# Altium schematic symbol library FLOOD_DATN.SchLib: 23 symbols
Pins are listed as number, name and electrical type; pins without a type are passive.

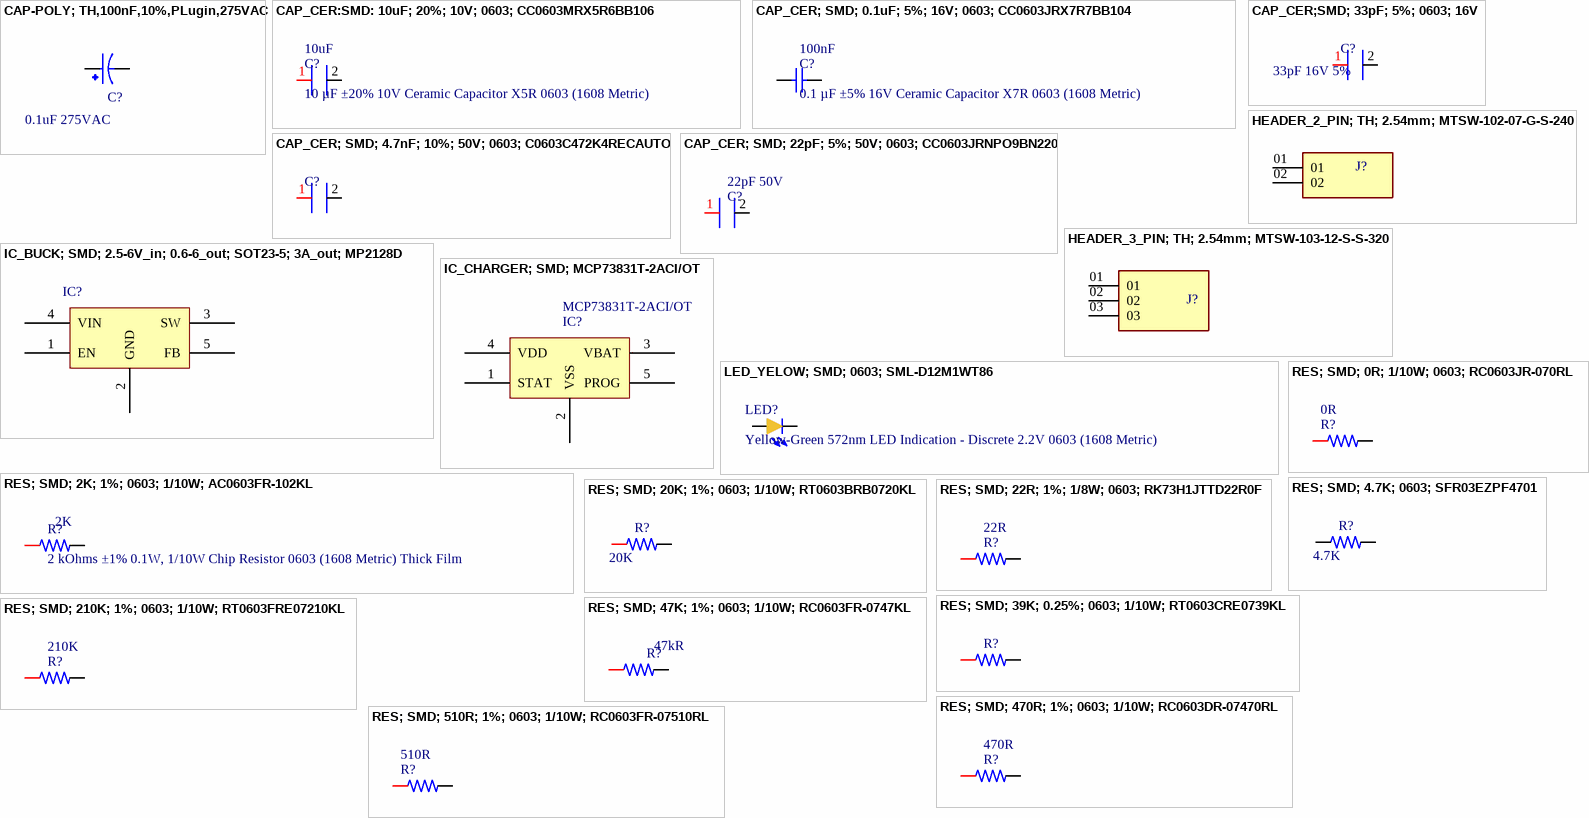
[diagram p0: symbols CAP-POLY; TH,100nF,10%,PLugin,275VAC to RES; SMD; 510R; 1%; 0603; 1/10W; RC0603FR-07510RL]

## CAP-POLY; TH,100nF,10%,PLugin,275VAC
designator C?, comment value 0.1uF 275VAC  (hidden comment: MEX104K275A)
100nF ±10% X2 275V Plugin,P=15mm Suppression Capacitors ROHS; Manufacture: TENTA ELEC INDUSTRIAL; MP: MEX104K275VACA01; Link: https://www.lcsc.com/datasheet/lcsc_datasheet_2304140030_TENTA-ELEC-INDUSTRIAL-MEX104K275VACA01_C8969.pdf; Parameter 1: *; Parameter 2: *; Parameter 3: *; Parameter 4: *; Parameter 5: *
footprint MEX104K275
pins: 1, 2

## CAP_CER:SMD: 10uF; 20%; 10V; 0603; CC0603MRX5R6BB106
designator C?, comment 10 µF ±20% 10V Ceramic Capacitor X5R 0603 (1608 Metric)  value 10uF
Multilayer Ceramic Capacitor, 10 uF, 10 V, ± 20%, X5R, 0603 [1608 Metric]; Manufacturer: Yageo; Manufacturer Part Number: CC0603MRX5R6BB106; Library MADE By: Cong Le; Supplier: Digikey; Supplier Part Number: 311-1817-1-ND; RoHS: Yes; Category: Ceramic Capacitors; Stock: 211765; Pricing: 1=0.18, 10=0.119, 50=0.0752, 100=0.0602, 500=0.04348, 1000=0.03847 (USD); Mounting Technology: Surface Mount; Case/Package: 0603; Case Code (Imperial): 0603; Case Code (Metric): 1608; Weight: 7.1E-05oz; Min Operating Temperature: -55°C; Max Operating Temperature: 85°C; Tolerance: 20%; Packaging: Tape and Reel; Voltage Rating (DC): 10V; Dielectric: X5R; Voltage Rating: 10V; Termination: SMD/SMT; Series: CC; Lead Free: Lead Free; Halogen Free: Halogen Free; RoHS Compliant: Yes; ComponentLink1URL: http://www.mouser.com/ds/2/447/UPY-GPHC_X5R_4V-to-50V_25-1131599.pdf?src-supplier=Mouser; ComponentLink1Description: http://www.mouser.com/ds/2/447/UPY-GPHC_X5R_4V-to-50V_25-1131599.pdf?src-supplier=Mouser; ComponentLink2URL: https://datasheet.octopart.com/CC0603MRX5R6BB106-Yageo-datasheet-158238148.pdf?src-supplier=Newark; ComponentLink2Description: https://datasheet.octopart.com/CC0603MRX5R6BB106-Yageo-datasheet-158238148.pdf?src-supplier=Newark; ComponentLink3URL: http://www.yageo.com/documents/recent/UPY-GPHC_X5R_4V-to-50V_25.pdf?src-supplier=Digikey; ComponentLink3Description: http://www.yageo.com/documents/recent/UPY-GPHC_X5R_4V-to-50V_25.pdf?src-supplier=Digikey; Manufacture Cross: CC0603MRX5R6BB106; Manufacture Part Number Cross: YAGEO; ComponentLink4Description: Link Original; ComponentLink4URL: https://www.digikey.com/en/products/detail/yageo/CC0603MRX5R6BB106/5195224; ComponentLink5Description: Link Cross; ComponentLink5URL: https://www.lcsc.com/product-detail/Multilayer-Ceramic-Capacitors-MLCC-SMD-SMT_YAGEO-CC0603MRX5R6BB106_C109453.html; ComponentLink6Description: Link Viet Nam; ComponentLink6URL: https://icdayroi.com/tu-dien-10uf-25v-0603
footprint CAP_0603_YAGEO
pins: 1  , 2  

## CAP_CER; SMD; 0.1uF; 5%; 16V; 0603; CC0603JRX7R7BB104
designator C?, comment 0.1 µF ±5% 16V Ceramic Capacitor X7R 0603 (1608 Metric)  value 100nF
Multilayer Ceramic Capacitor, 0.1 uF, 16 V, ± 5%, X7R, 0603 [1608 Metric]; Manufacturer: Yageo; Manufacturer Part Number: CC0603JRX7R7BB104; Supplier: Digikey; Supplier Part Number: 311-1776-1-ND; RoHS: Yes; Category: Ceramic Capacitors; Stock: 69960; Pricing: 1=0.1, 10=0.064, 50=0.0368, 100=0.0286, 500=0.0215, 1000=0.01689 (USD); Mounting Technology: Surface Mount; Case/Package: 0603; Pins: 2; Case Code (Metric): 1608; Case Code (Imperial): 0603; Min Operating Temperature: -55°C; Max Operating Temperature: 125°C; Tolerance: 5%; Voltage Rating: 16V; Packaging: Tape and Reel; Dielectric: X7R; Voltage Rating (DC): 16V; Series: CC; Length: 0.063inch; Width: 0.031inch; Thickness: 0.035inch; Depth: 0.8mm; Radiation Hardening: No; Lead Free: Lead Free; Halogen Free: Halogen Free; RoHS Compliant: Yes; ComponentLink1URL: https://datasheet.ciiva.com/26862/getdatasheetpartid-403543-26862779.pdf?src-supplier=Verical; ComponentLink1Description: https://datasheet.ciiva.com/26862/getdatasheetpartid-403543-26862779.pdf?src-supplier=Verical
footprint CAP_0603_YAGEO
pins: 1, 2

## CAP_CER; SMD; 4.7nF; 10%; 50V; 0603; C0603C472K4RECAUTO
designator C?, comment 4700 pF ±10% 16V Ceramic Capacitor X7R 0603 (1608 Metric)  (value not drawn)
Cap Ceramic 0.0047uF 16V X7R 10% Pad SMD 0603 125C Automotive T/R; Manufacturer: KEMET; Manufacturer Part Number: C0603C472K4RECAUTO; Dielectric: 1511DielectricType; Library MADE By: Cong Le; Supplier: Mouser; Supplier Part Number: 80-C0603C472K4RECAUT; RoHS: Yes; Category: Ceramic Capacitors; Stock: 16235; Pricing: 1=0.14, 10=0.08, 50=0.08, 100=0.045, 1000=0.029, 10000=0.02 (USD); Voltage Rating (DC): 16V; RoHS Compliant: 5897YesNo; ComponentLink1URL: http://www.farnell.com/datasheets/2723742.pdf?src-supplier=Farnell; ComponentLink1Description: http://www.farnell.com/datasheets/2723742.pdf?src-supplier=Farnell; ComponentLink2URL: http://www.farnell.com/datasheets/2723742.pdf?src-supplier=Newark; ComponentLink2Description: http://www.farnell.com/datasheets/2723742.pdf?src-supplier=Newark; ComponentLink3URL: https://api.kemet.com/component-edge/download/datasheet/C0603C472K4RECAUTO.pdf?src-supplier=Digikey; ComponentLink3Description: https://api.kemet.com/component-edge/download/datasheet/C0603C472K4RECAUTO.pdf?src-supplier=Digikey; ComponentLink4URL: https://datasheet.octopart.com/C0603C472K4RECAUTO-KEMET-datasheet-153706760.pdf?src-supplier=Element14; ComponentLink4Description: https://datasheet.octopart.com/C0603C472K4RECAUTO-KEMET-datasheet-153706760.pdf?src-supplier=Element14; ComponentLink5URL: https://datasheet.octopart.com/C0603C472K4RECAUTO-KEMET-datasheet-176334383.pdf?src-supplier=Newark; ComponentLink5Description: https://datasheet.octopart.com/C0603C472K4RECAUTO-KEMET-datasheet-176334383.pdf?src-supplier=Newark; Manufacture Part Number Cross: C0603C472K4RECAUTO; Manufacture Cross: KEMET; ComponentLink6Description: Link Original; ComponentLink6URL: https://www.digikey.com/en/products/detail/kemet/C0603C472K4RECAUTO/8640473; ComponentLink7Description: Link Cross; ComponentLink7URL: https://www.lcsc.com/product-detail/Multilayer-Ceramic-Capacitors-MLCC-SMD-SMT_KEMET-C0603C472K4RECAUTO_C2176713.html?s_z=n_C0603C472K4RECAUTO; ComponentLink8Description: Link Viet Nam; ComponentLink8URL: https://linhkienchatluong.vn/tu-dan-0603/tu-dan-0603-472-47nf-50v-10-10c_sp1063_ct14596.aspx
footprint CAP_0603_KEMET
pins: 1  , 2  

## CAP_CER; SMD; 22pF; 5%; 50V; 0603; CC0603JRNPO9BN220
designator C?, comment value 22pF 50V  (hidden comment: 22 pF ±5% 50V Ceramic Capacitor C0G, NP0 0603 (1608 Metric))
Surface Mount Ceramic Multilayer Capacitor 22pF 5% C0G 50V 0603 Paper T/R; Manufacturer: Yageo; Manufacturer Part Number: CC0603JRNPO9BN220; Temperature Coefficient: 30ppm/°C; Library MADE By: Cong Le; Supplier: Future Electronics; Supplier Part Number: 2031987; RoHS: Yes; Category: Ceramic Capacitors; Stock: 2576000; Pricing: 4000=0.0033, 16000=0.0032, 60000=0.0031, 160000=0.003, 400000=0.0028 (USD); Mounting Technology: Surface Mount; Case/Package: 0603; Pins: 2; Case Code (Imperial): 0603; Case Code (Metric): 1608; Min Operating Temperature: -55°C; Max Operating Temperature: 125°C; Tolerance: 5%; Dielectric: C0G; Voltage Rating: 50V; Voltage Rating (DC): 50V; Packaging: Tape and Reel; Package Quantity: 1; Termination: SMD/SMT; Voltage: 50V; Series: CC; Voltage Rating (AC): 50V; Length: 1.6mm; Width: 0.031inch; Height: 0.8mm; Thickness: 0.035inch; Depth: 0.8mm; Radiation Hardening: No; Reach SVHC Compliant: No; Lead Free: Lead Free; RoHS Compliant: Yes; Halogen Free: 5694HalogenFree; ComponentLink1URL: https://datasheet.ciiva.com/11786/0900766b8079c870-11786216.pdf?src-supplier=Rs; ComponentLink1Description: https://datasheet.ciiva.com/11786/0900766b8079c870-11786216.pdf?src-supplier=Rs; ComponentLink2URL: https://datasheet.ciiva.com/28450/1443161-28450487.pdf?src-supplier=Element14; ComponentLink2Description: https://datasheet.ciiva.com/28450/1443161-28450487.pdf?src-supplier=Element14; ComponentLink3URL: https://datasheet.ciiva.com/46430/1835847-46430153.pdf?src-supplier=Element14; ComponentLink3Description: https://datasheet.ciiva.com/46430/1835847-46430153.pdf?src-supplier=Element14; ComponentLink4URL: https://datasheet.ciiva.com/144/mlccorderingcode-144632.pdf?src-supplier=Digikey; ComponentLink4Description: https://datasheet.ciiva.com/144/mlccorderingcode-144632.pdf?src-supplier=Digikey; ComponentLink5URL: https://datasheet.ciiva.com/144/mlccorderingcode-144631.pdf?src-supplier=Digikey; ComponentLink5Description: https://datasheet.ciiva.com/144/mlccorderingcode-144631.pdf?src-supplier=Digikey; ComponentLink6URL: https://datasheet.ciiva.com/144/mlccorderingcode-144633.pdf?src-supplier=Digikey; ComponentLink6Description: https://datasheet.ciiva.com/144/mlccorderingcode-144633.pdf?src-supplier=Digikey; ComponentLink7URL: https://datasheet.ciiva.com/8033/1734582-8033749.pdf?src-supplier=Element14; ComponentLink7Description: https://datasheet.ciiva.com/8033/1734582-8033749.pdf?src-supplier=Element14; ComponentLink8URL: https://datasheet.ciiva.com/11464/upy-gp-np0-16v-to-50v-8-11464728.pdf?src-supplier=Avnet; ComponentLink8Description: https://datasheet.ciiva.com/11464/upy-gp-np0-16v-to-50v-8-11464728.pdf?src-supplier=Avnet; Manufacture Part Number Cross: CC0603JRNPO9BN220; Manufacture Cross: YAGEO; ComponentLink9Description: Link Original; ComponentLink9URL: https://www.digikey.com/en/products/detail/yageo/CC0603JRNPO9BN220/302796; ComponentLink10Description: Link Cross; ComponentLink10URL: https://www.lcsc.com/product-detail/Multilayer-Ceramic-Capacitors-MLCC-SMD-SMT_YAGEO-CC0603JRNPO9BN220_C105620.html?s_z=n_cap%200603%2022pF%2050V; ComponentLink11Description: Link Viet Nam; ComponentLink11URL: https://www.thegioiic.com/tu-gom-0603-22pf-50v
footprint CAP_0603_KEMET
pins: 1  , 2  

## CAP_CER;SMD; 33pF; 5%; 0603; 16V
designator C?, comment value 33pF 16V 5%  (hidden comment: 885012006020)
WCAP-CSGP General Purpose MLCC; SMT 0603; NP0; 33pF 5%; 16V; -55C to +125C; Tech. PN NP00603330J016DFCT10000; Manufacture: WURTH ELECTRONIK; MP: 885012006020; Link: https://www.snapeda.com/parts/885012006020/Wurth%20Electronics%20Inc/view-part/?ref=search&t=cap%200603%2033pF%20WURTH%20ELECTRONIK; PACKAGE: 0603
footprint 0603_WURTH ELECTRONIK
pins: 1  , 2  

## HEADER_2_PIN; TH; 2.54mm; MTSW-102-07-G-S-240
designator J?, comment Connector Header Through Hole 2 position 0.100" (2.54mm)  (value not drawn)
Conn Unshrouded Header HDR 2 POS 2.54mm Solder ST Top Entry Thru-Hole Bulk; Manufacturer: Samtec; Manufacturer Part Number: MTSW-102-07-G-S-240; Manufacture Cross: Samtec Inc.; Library MADE By: Cong Le; Supplier: Digikey; Supplier Part Number: SAM15241-ND; RoHS: Yes; Category: Connectors; Stock: 185; Pricing: 1=0.33, 50=0.25, 100=0.21, 500=0.17, 1000=0.14, 2000=0.12984 (USD); ComponentLink1URL: https://datasheet.octopart.com/MTSW-102-07-G-S-240-Samtec-datasheet-104272029.pdf?src-supplier=Newark; ComponentLink1Description: https://datasheet.octopart.com/MTSW-102-07-G-S-240-Samtec-datasheet-104272029.pdf?src-supplier=Newark; ComponentLink2URL: http://www.samtec.com/documents/webfiles/pdf/HMTSW.PDF?src-supplier=Avnet; ComponentLink2Description: http://www.samtec.com/documents/webfiles/pdf/HMTSW.PDF?src-supplier=Avnet; ComponentLink3URL: http://suddendocs.samtec.com/catalog_english/mtsw.pdf?src-supplier=Digikey; ComponentLink3Description: http://suddendocs.samtec.com/catalog_english/mtsw.pdf?src-supplier=Digikey; ComponentLink4URL: https://datasheet.octopart.com/MTSW-102-07-G-S-240-Samtec-datasheet-97134619.pdf?src-supplier=Samtec; ComponentLink4Description: https://datasheet.octopart.com/MTSW-102-07-G-S-240-Samtec-datasheet-97134619.pdf?src-supplier=Samtec; ComponentLink5URL: https://datasheet.octopart.com/MTSW-102-07-G-S-240-Samtec-datasheet-116533381.pdf?src-supplier=Toby+Electronics; ComponentLink5Description: https://datasheet.octopart.com/MTSW-102-07-G-S-240-Samtec-datasheet-116533381.pdf?src-supplier=Toby+Electronics; ComponentLink6URL: https://datasheet.octopart.com/MTSW-102-07-G-S-240-Samtec-datasheet-118493423.pdf?src-supplier=Electro+Sonic; ComponentLink6Description: https://datasheet.octopart.com/MTSW-102-07-G-S-240-Samtec-datasheet-118493423.pdf?src-supplier=Electro+Sonic; ComponentLink7URL: https://datasheet.octopart.com/MTSW-102-07-G-S-240-Samtec-datasheet-158401026.pdf?src-supplier=Sager+Electronics; ComponentLink7Description: https://datasheet.octopart.com/MTSW-102-07-G-S-240-Samtec-datasheet-158401026.pdf?src-supplier=Sager+Electronics; Manufacture Part Number Cross: MTSW-102-07-G-S-240; ComponentLink8Description: Link Original; ComponentLink8URL: https://www.digikey.com/en/products/detail/samtec-inc/MTSW-102-07-G-S-240/6691608; ComponentLink9Description: Link Cross; ComponentLink9URL: https://www.lcsc.com/product-detail/Pin-Headers_Samtec-MTSW-102-07-G-S-240_C5684211.html; ComponentLink10Description: Link Viet Nam; ComponentLink10URL: https://dientu360.com/jump-duc-chan-1x2p-2-54mm-thang
footprint SAMTEC_MTSW-102-07-G-S-240
pins: 01, 02

## HEADER_3_PIN; TH; 2.54mm; MTSW-103-12-S-S-320
designator J?, comment Connector Header Through Hole 3 position 0.100" (2.54mm)  (value not drawn)
Headers & Wire Housings Variable Height PCB Header Strips, 0.100 pitch; Manufacturer: Samtec; Manufacturer Part Number: MTSW-103-12-S-S-320; Manufacture Cross: Samtec Inc.; Library MADE By: Cong Le; Supplier: Arrow Electronics; Supplier Part Number: MTSW-103-12-S-S-320; RoHS: Yes; Category: Connectors; Stock: 1680; Pricing: 1=0.87, 50=0.68, 100=0.55, 500=0.47, 1000=0.36, 2000=0.32, 5000=0.25, 59679=0.18 (USD); ComponentLink1URL: http://suddendocs.samtec.com/catalog_english/mtsw.pdf?src-supplier=Digikey; ComponentLink1Description: http://suddendocs.samtec.com/catalog_english/mtsw.pdf?src-supplier=Digikey; ComponentLink2URL: http://www.samtec.com/documents/webfiles/pdf/HMTSW.PDF?src-supplier=Avnet; ComponentLink2Description: http://www.samtec.com/documents/webfiles/pdf/HMTSW.PDF?src-supplier=Avnet; Manufacture Part Number Cross: MTSW-103-12-S-S-320; ComponentLink3Description: Link Original; ComponentLink3URL: https://www.digikey.com/en/products/detail/samtec-inc/MTSW-103-12-S-S-320/8144559?s=N4IgTCBcDaILIBUDKB1AtARgAwGZNjSULRzCxAF0BfIA; ComponentLink4Description: Link Cross; ComponentLink4URL: https://www.lcsc.com/product-detail/Pin-Headers_Samtec-MTSW-103-12-S-S-320_C7241465.html; ComponentLink5Description: Link Viet Nam; ComponentLink5URL: https://linhkien.cxt.vn/10707-jump-duc-don-smd-254mm-1x3p-l128mm-10c.html/page-4
footprint SAMTEC_MTSW-103-12-S-S-320
pins: 01, 02, 03

## IC_BUCK; SMD; 2.5-6V_in; 0.6-6_out; SOT23-5; 3A_out; MP2128DT-LF-Z
designator IC?, comment Buck Switching Regulator IC Positive Adjustable 0.6V 1 Output 1A SC-74A, SOT-753  (value not drawn)
MP2128 Series 6 V 1 A 3.2 MHz SMT Synchronous Step-Down Converter - SOT23-5; Manufacturer: Monolithic Power Systems; Manufacturer Part Number: MP2128DT-LF-Z; Library MADE By: Cong Le; Supplier: Digikey; Supplier Part Number: 1589-1873-1-ND; RoHS: Yes; Category: Voltage Regulators - Switching; Stock: 7365; Pricing: 1=1.22, 10=0.883, 25=0.7988, 100=0.7064, 250=0.6624, 500=0.63584, 1000=0.61398 (USD); ComponentLink1URL: http://www.mouser.com/ds/2/277/MP2128_r0.9-478339.pdf?src-supplier=Mouser; ComponentLink1Description: http://www.mouser.com/ds/2/277/MP2128_r0.9-478339.pdf?src-supplier=Mouser; ComponentLink2URL: http://www.monolithicpower.com/Page/DownLoad.aspx?ListID=1a4312a6-2709-4b7d-af52-9f1cedbfd415&&ItemID=24&src-supplier=Avnet; ComponentLink2Description: http://www.monolithicpower.com/Page/DownLoad.aspx?ListID=1a4312a6-2709-4b7d-af52-9f1cedbfd415&&ItemID=24&src-supplier=Avnet; ComponentLink3URL: https://www.monolithicpower.com/pub/media/document/MP2128_r0.9.pdf?src-supplier=Digikey; ComponentLink3Description: https://www.monolithicpower.com/pub/media/document/MP2128_r0.9.pdf?src-supplier=Digikey; ComponentLink4URL: http://www.monolithicpower.com/DesktopModules/DocumentManage/API/Document/getDocument?id=509&src-supplier=Digikey; ComponentLink4Description: http://www.monolithicpower.com/DesktopModules/DocumentManage/API/Document/getDocument?id=509&src-supplier=Digikey; Manufacture Part Number Cross: *; Manufacture Cross: *; ComponentLink5Description: Link Viet Nam; ComponentLink5URL: https://linhkien.cxtvn.com/6999-mp2128dt-lf-z-ic-reg-buck-adj-1a-sot23-5.html; ComponentLink6Description: Link Cross; ComponentLink6URL: *; ComponentLink7Description: Link Original; ComponentLink7URL: https://www.digikey.com/en/products/detail/monolithic-power-systems-inc/MP2128DT-LF-Z/9555303
footprint SOT-23-5
pins: 1 EN, 2 GND, 3 SW, 4 VIN, 5 FB

## IC_CHARGER; SMD; MCP73831T-2ACI/OT
designator IC?, comment Manufacturer Part Number: MCP73831T-2ACI/OT  (hidden comment: Charger IC Lithium Ion/Polymer SOT-23-5)
MCP73831 Series Single-Cell Li-Ion/Li-Polymer Battery Charge Controller SOT-23-5; Manufacturer: Microchip; Number of Cells: 1; Max Supply Voltage: 6V; Output Voltage: 4.2V; Min Supply Voltage: 3.75V; Output Current: 500mA; Max Output Voltage: 4.5V; Max Power Dissipation: 1.54W; Drain to Source Resistance: 350mR; Min Output Voltage: 4.168V; Voltage Rating: 4.534V; Fault Protection: Over Voltage; Library MADE By: Cong Le; Supplier: Newark; Supplier Part Number: 34M7499; RoHS: Yes; Category: Battery Management; Stock: 23961; Pricing: 1=0.75 (USD); Mounting Technology: Surface Mount; Case/Package: SOT-23; Pins: 5; Weight: 0.00709oz; Min Operating Temperature: -40°C; Max Operating Temperature: 85°C; Number of Outputs: 1; Packaging: Tape and Reel; Number of Channels: 1; Termination: SMD/SMT; Max Charge Current: 500mA; Series: -; Battery Pack Voltage: 4.2V; Length: 3.1mm; Width: 1.8mm; Height: 1.3mm; Radiation Hardening: No; RoHS Compliant: Yes; Reach SVHC Compliant: No; ComponentLink1URL: https://datasheet.ciiva.com/22828/0900766b80d2b53a-22828876.pdf?src-supplier=Rs; ComponentLink1Description: https://datasheet.ciiva.com/22828/0900766b80d2b53a-22828876.pdf?src-supplier=Rs; ComponentLink2URL: https://datasheet.ciiva.com/26344/651521-da-01-en-contr-mcp73831t-2aci-ot-sot-23-5-mcp-26344458.pdf?src-supplier=Conrad; ComponentLink2Description: https://datasheet.ciiva.com/26344/651521-da-01-en-contr-mcp73831t-2aci-ot-sot-23-5-mcp-26344458.pdf?src-supplier=Conrad; ComponentLink3URL: https://datasheet.ciiva.com/1137/630369-1137803.pdf?src-supplier=Element14; ComponentLink3Description: https://datasheet.ciiva.com/1137/630369-1137803.pdf?src-supplier=Element14; ComponentLink4URL: https://datasheet.ciiva.com/28626/630369-28626439.pdf?src-supplier=Element14; ComponentLink4Description: https://datasheet.ciiva.com/28626/630369-28626439.pdf?src-supplier=Element14; ComponentLink5URL: https://datasheet.ciiva.com/1144/630369-1144461.pdf?src-supplier=Newark; ComponentLink5Description: https://datasheet.ciiva.com/1144/630369-1144461.pdf?src-supplier=Newark; ComponentLink6URL: https://datasheet.ciiva.com/16286/filehandler-aspxddocname-en025112-16286957.pdf?src-supplier=Future+Electronics; ComponentLink6Description: https://datasheet.ciiva.com/16286/filehandler-aspxddocname-en025112-16286957.pdf?src-supplier=Future+Electronics; ComponentLink7URL: https://datasheet.ciiva.com/1931/21984e-1931954.pdf?src-supplier=Digikey; ComponentLink7Description: https://datasheet.ciiva.com/1931/21984e-1931954.pdf?src-supplier=Digikey; ComponentLink8URL: https://datasheet.ciiva.com/1931/21984e-1931953.pdf?src-supplier=Digikey; ComponentLink8Description: https://datasheet.ciiva.com/1931/21984e-1931953.pdf?src-supplier=Digikey; ComponentLink9URL: https://datasheet.ciiva.com/46385/630369-46385324.pdf?src-supplier=Element14; ComponentLink9Description: https://datasheet.ciiva.com/46385/630369-46385324.pdf?src-supplier=Element14; ComponentLink10URL: https://datasheet.ciiva.com/3213/21984e-3213404.pdf?src-supplier=Avnet; ComponentLink10Description: https://datasheet.ciiva.com/3213/21984e-3213404.pdf?src-supplier=Avnet; ComponentLink11URL: https://datasheet.ciiva.com/1931/21984e-1931955.pdf?src-supplier=Digikey; ComponentLink11Description: https://datasheet.ciiva.com/1931/21984e-1931955.pdf?src-supplier=Digikey; Manufacture Part Number Cross: *; Manufacture Cross: *; ComponentLink12Description: Link Viet Nam; ComponentLink12URL: https://dientuachau.com/mcp73831t-2ati-ot; ComponentLink13Description: Link Cross; ComponentLink13URL: *; ComponentLink14Description: Link Original; ComponentLink14URL: https://www.digikey.com/en/products/detail/microchip-technology/MCP73831T-2ACI-OT/964301?s=N4IgTCBcDaILIGEAKB2AzADjQRgCoFowBBBASQHlcQBdAXyA
footprint SOT-23-5
pins: 1 STAT, 2 VSS, 3 VBAT, 4 VDD, 5 PROG

## LED_YELOW; SMD; 0603; SML-D12M1WT86
designator LED?, comment Yellow-Green 572nm LED Indication - Discrete 2.2V 0603 (1608 Metric)
LED Uni-Color Yellow Green 2-Pin Chip 0603(1608Metric) T/R; Manufacturer: Rohm; Manufacturer Part Number: SML-D12M1WT86; Manufacture Cross: ROHM Semicon; Forward Current: 20mA; Power Dissipation: 54mW; Reverse Voltage: 5V; Library MADE By: Cong Le; Supplier: Digikey; Supplier Part Number: SML-D12M1WT86CT-ND; RoHS: Yes; Category: LEDs; Stock: 114320; Pricing: 1=0.21, 10=0.116, 100=0.0689, 500=0.05074, 1000=0.04519 (USD); Min Operating Temperature: -40°C; Max Operating Temperature: 85°C; Wavelength: 572nm; Lead Free: 5697LeadFree; ComponentLink1URL: https://datasheet.octopart.com/SML-D12M1WT86-Rohm-datasheet-138791993.pdf?src-supplier=Future+Electronics; ComponentLink1Description: https://datasheet.octopart.com/SML-D12M1WT86-Rohm-datasheet-138791993.pdf?src-supplier=Future+Electronics; ComponentLink2URL: https://www.rohm.com/datasheet/SML-D12M1W?src-supplier=Digikey; ComponentLink2Description: https://www.rohm.com/datasheet/SML-D12M1W?src-supplier=Digikey; ComponentLink3URL: https://datasheet.octopart.com/SML-D12M1WT86-Rohm-datasheet-142144710.pdf?src-supplier=TME; ComponentLink3Description: https://datasheet.octopart.com/SML-D12M1WT86-Rohm-datasheet-142144710.pdf?src-supplier=TME; Manufacture Part Number Cross: ROHM Semicon; ComponentLink4Description: Link Original; ComponentLink4URL: https://www.digikey.com/en/products/detail/rohm-semiconductor/sml-d12m1wt86/5843856; ComponentLink5Description: Link Cross; ComponentLink5URL: https://www.lcsc.com/product-detail/LED-Indication-Discrete_ROHM-Semicon-SML-D12M1WT86_C2922668.html; ComponentLink6Description: Link Viet Nam; ComponentLink6URL: https://linhkienviet.vn/led-0603-vang
footprint LED_0603_ROHM
pins: A, C

## RES; SMD; 0R; 1/10W; 0603; RC0603JR-070RL
designator R?, comment value 0R  (hidden comment: 0 Ohms Jumper Chip Resistor 0603 (1608 Metric) Moisture Resistant Thick Film)
GENERAL PURPOSE CHIP RESISTOR Metal Glaze/thick Film, 0.1W, 0ohm, Surface Mount, 0603; Manufacturer: Yageo; Manufacturer Part Number: RC0603JR-070RL; Tolerance: 1%; Power Rating: 100mW; Voltage Rating (DC): 50V; Temperature Coefficient: 200ppm/°C; Resistance Tolerance: 5%; Library MADE By: Cong Le; Supplier: Future Electronics; Supplier Part Number: 3992146; RoHS: Yes; Category: Chip SMD Resistors; Stock: 11810000; Pricing: 5000=0.0015, 50000=0.0014, 75000=0.0014, 150000=0.0013, 250000=0.0014, 375000=0.0013, 750000=0.0013, 1000000=0.0012, 2500000=0.0012 (USD); Case/Package: 0603; Pins: 2; Contact Plating: Tin,Matte; Case Code (Imperial): 0603; Case Code (Metric): 1608; Min Operating Temperature: -55°C; Max Operating Temperature: 155°C; Resistor Type: Thick Film; Packaging: Tape and Reel; Termination: SMD/SMT; Series: RC; Technology: THICK FILM; Package Quantity: 5000; Voltage Rating: 50V; Features: Moisture Resistant; Max Power Dissipation: 100mW; Number of Terminations: 2; Construction: Rectangular; Length: 1.6mm; Width: 0.8mm; Height: 0.45mm; Depth: 0.8mm; Reach SVHC Compliant: Unknown; Lead Free: 5697LeadFree; RoHS Compliant: Yes; Military Standard: Not; Manufacture Cross: YAGEO; Manufacture Part Number Cross: RC0603JR-070RL; ComponentLink1Description: Link Original; ComponentLink1URL: https://www.digikey.com/en/products/detail/yageo/RC0603JR-070RL/726675; ComponentLink2Description: Link Cross; ComponentLink2URL: https://www.lcsc.com/product-detail/Chip-Resistor-Surface-Mount_YAGEO-RC0603JR-070RL_C95177.html; ComponentLink3Description: Link Viet Nam; ComponentLink3URL: https://cungcaplinhkien.vn/dien-tro-dan-0k-0603-5-cuon-5000pcs
footprint 0603_YAGEO
pins: 1, 2

## RES; SMD; 2K; 1%; 0603; 1/10W; AC0603FR-102KL
designator R?, comment 2 kOhms ±1% 0.1W, 1/10W Chip Resistor 0603 (1608 Metric) Thick Film  value 2K
Res Thick Film 0603 2K Ohm 1% 0.1W(1/10W) ±100ppm/C Epoxy Pad SMD Automotive T/R; Manufacturer: Yageo; Manufacturer Part Number: AC0603FR-102KL; Power Rating: 100mW; Temperature Coefficient: 100ppm/°C; Voltage Rating: 75V; Library MADE By: Cong Le; Supplier: Future Electronics; Supplier Part Number: 5129927; RoHS: Yes; Category: Chip SMD Resistors; Stock: 10000; Pricing: 10000=0.0016, 30000=0.0015, 50000=0.0015, 200000=0.0015, 300000=0.0014 (USD); Case/Package: 0603; Min Operating Temperature: -55°C; Max Operating Temperature: 155°C; Tolerance: 1%; Packaging: 10Packaging; Height: 550um; RoHS Compliant: Yes; ComponentLink1URL: https://datasheet.octopart.com/AC0603FR-102KL-Yageo-datasheet-137699919.pdf?src-supplier=Future+Electronics; ComponentLink1Description: https://datasheet.octopart.com/AC0603FR-102KL-Yageo-datasheet-137699919.pdf?src-supplier=Future+Electronics; Manufacture Part Number Cross: *; Manufacture Cross: *; ComponentLink2Description: Link Viet Nam; ComponentLink2URL: https://linhkienchatluong.vn/dien-tro-dan-0603-116w-1/dien-tro-dan-0603-2k-1-30b-50c_sp836_ct8910.aspx; ComponentLink3Description: Link Cross; ComponentLink3URL: *; ComponentLink4Description: Link Original; ComponentLink4URL: https://www.digikey.com/en/products/detail/yageo/AC0603FR-102KL/14008310?s=N4IgTCBcDaIIIGEAMA2JBmAYgJQLQEYkwBpAGRAF0BfIA
footprint 0603_YAGEO
pins: 1, 2

## RES; SMD; 4.7K; 0603; SFR03EZPF4701
designator R?, comment value 4.7K  (hidden comment: 4.7 kOhms ±1% 0.1W, 1/10W Chip Resistor 0603 (1608 Metric) Anti-Sulfur Thick Film)
Res Anti-Sulfured Thick Film 0603 4.7k Ohm 1% 1/10W ±100ppm/°C Molded Paper T/R; Manufacturer: Rohm; Manufacturer Part Number: SFR03EZPF4701; Power Rating: 100mW; Voltage Rating (DC): 50V; Designer: TVBac; Supplier: Mouser; Supplier Part Number: 755-SFR03EZPF4701; RoHS: Yes; Category: Chip SMD Resistors; Stock: 30180; Pricing: 1=0.14, 10=0.045, 50=0.045, 100=0.027, 1000=0.02, 10000=0.014 (USD); ComponentLink1URL: http://www.farnell.com/datasheets/2611943.pdf?src-supplier=Farnell; ComponentLink1Description: http://www.farnell.com/datasheets/2611943.pdf?src-supplier=Farnell; ComponentLink2URL: http://www.farnell.com/datasheets/2611943.pdf?src-supplier=Newark; ComponentLink2Description: http://www.farnell.com/datasheets/2611943.pdf?src-supplier=Newark; ComponentLink3URL: http://www.farnell.com/datasheets/2611943.pdf?src-supplier=Element14; ComponentLink3Description: http://www.farnell.com/datasheets/2611943.pdf?src-supplier=Element14; ComponentLink4URL: https://www.rohm.com/datasheet/SFR03EZPF/sfr-e?src-supplier=Digikey; ComponentLink4Description: https://www.rohm.com/datasheet/SFR03EZPF/sfr-e?src-supplier=Digikey; ComponentLink5Description: Link Digikey; ComponentLink5URL: https://www.digikey.com/en/products/detail/rohm-semiconductor/SFR03EZPF4701/9771855
footprint 0603-RS
pins: 1, 2

## RES; SMD; 20K; 1%; 0603; 1/10W; RT0603BRB0720KL
designator R?, comment value 20K  (hidden comment: Res Thin Film 0603 20K Ohm 0.1% 0.1W(1/10W) ±10ppm/C Molded SMD Paper T/R)
Res Thin Film 0603 20K Ohm 0.1% 0.1W(1/10W) ±10ppm/C Pad SMD T/R; Manufacturer: Yageo; Manufacturer Part Number: RT0603BRB0720KL; Library MADE By: Cong Le; Supplier: Digikey; Supplier Part Number: YAG2180CT-ND; RoHS: Yes; Category: Chip SMD Resistors; Stock: 1564; Pricing: 1=0.56, 10=0.404, 50=0.2928, 100=0.2754, 500=0.21318, 1000=0.17052 (USD); ComponentLink1URL: https://datasheet.ciiva.com/12726/pyu-rt-1-to-0-05-rohs-l-4-12726757.pdf?src-supplier=Mouser; ComponentLink1Description: https://datasheet.ciiva.com/12726/pyu-rt-1-to-0-05-rohs-l-4-12726757.pdf?src-supplier=Mouser; Manufacture Part Number Cross: *; Manufacture Cross: *; ComponentLink2Description: Link Viet Nam; ComponentLink2URL: https://linhkienchatluong.vn/dien-tro-dan-0603-116w-1/dien-tro-dan-0603-20k-1-30c-50c_sp836_ct8433.aspx; ComponentLink3Description: Link Cross; ComponentLink3URL: *; ComponentLink4Description: Link Original; ComponentLink4URL: https://www.digikey.com/en/products/detail/yageo/RT0603BRB0720KL/5138699?s=N4IgTCBcDaIEoBUAMA2JBmAQnTSDsYSA0gDIgC6AvkA
footprint 0603_YAGEO
pins: 1, 2

## RES; SMD; 22R; 1%; 1/8W; 0603; RK73H1JTTD22R0F
designator R?, comment value 22R  (hidden comment: 22 Ohms ±1% 0.1W, 1/10W Chip Resistor 0603 (1608 Metric) Automotive AEC-Q200 Thick Film)
Res Thick Film 0603 22 Ohm 1% 0.125W(1/8W) +/-100ppm/ßC Pad SMD Automotive T/R; Manufacturer: KOA Speer; Manufacturer Part Number: RK73H1JTTD22R0F; Manufacture Cross: KOA Speer Electronics, Inc.; Power Rating: 100mW; Voltage Rating: 50V; Temperature Coefficient: 100ppm/°C; Max Power Dissipation: 125mW; Library MADE By: Cong Le; Supplier: Digikey; Supplier Part Number: 2019-RK73H1JTTD22R0FCT-ND; RoHS: Yes; Category: Chip SMD Resistors; Stock: 224262; Pricing: 1=0.1, 10=0.021, 50=0.013, 100=0.0108, 500=0.00734, 1000=0.00631, 5000=0.00458, 10000=0.00406, 25000=0.00348, 35000=0.00338, 50000=0.00314, 125000=0.00285 (USD); Case/Package: 0603; Pins: 2; Case Code (Imperial): 0603; Case Code (Metric): 1608; Min Operating Temperature: -55°C; Max Operating Temperature: 155°C; Tolerance: 1%; Packaging: Tape and Reel; Package Quantity: 5000; Resistor Type: Thick Film; Termination: SMD/SMT; Voltage Rating (DC): 50V; Series: RK73H; Resistance Tolerance: 1%; Features: Moisture Resistant,Automotive AEC-Q200; Number of Terminations: 2; Length: 1.6mm; Width: 0.8mm; Height: 0.45mm; Ratings: AEC-Q200; Lead Free: Lead Free; RoHS Compliant: Yes; ComponentLink1URL: https://datasheet.ciiva.com/48426/rk73h-series-eng-jap-tds-48426569.pdf?src-supplier=Distrelec; ComponentLink1Description: https://datasheet.ciiva.com/48426/rk73h-series-eng-jap-tds-48426569.pdf?src-supplier=Distrelec; ComponentLink2URL: https://datasheet.ciiva.com/5553/rk73h-5715-5553511.pdf?src-supplier=Mouser; ComponentLink2Description: https://datasheet.ciiva.com/5553/rk73h-5715-5553511.pdf?src-supplier=Mouser; Manufacture Part Number Cross: RK73H1JTTD22R0F; ComponentLink3Description: Link Original; ComponentLink3URL: https://www.digikey.com/en/products/detail/koa-speer-electronics-inc/RK73H1JTTD22R0F/9844876; ComponentLink4Description: Link Cross; ComponentLink4URL: https://www.lcsc.com/product-detail/Chip-Resistor-Surface-Mount_KOA-Speer-Elec-RK73H1JTTD22R0F_C160030.html; ComponentLink5Description: Link Viet Nam; ComponentLink5URL: https://shopee.vn/%C4%90i%E1%BB%87n-Tr%E1%BB%9F-D%C3%A1n-220-22R-0603-1-8W-(100-con-T%C3%BAi)-i.503475102.12184492244
footprint 0603_KOA
pins: 1, 2

## RES; SMD; 39K; 0.25%; 0603; 1/10W; RT0603CRE0739KL
designator R?, comment 39 kOhms ±0.25% 0.1W, 1/10W Chip Resistor 0603 (1608 Metric) Thin Film  (value not drawn)
High Precision-High Stability Chip Resistor Thin Film 0603 39kOhm 0.25% Paper T/R; Manufacturer: Yageo; Manufacturer Part Number: RT0603CRE0739KL; Value: 39K; Max Power Dissipation: 100mW; Temperature Coefficient: 50ppm/°C; Library MADE By: Cong Le; Supplier: Digikey; Supplier Part Number: RT0603CRE0739KL-ND; RoHS: Yes; Category: Chip SMD Resistors; Pricing: 5000=0.04827 (USD); Case/Package: 0603; Min Operating Temperature: -55°C; Max Operating Temperature: 155°C; Tolerance: 0.25%; Packaging: Tape and Reel; Number of Terminations: 2; Features: Moisture Resistant; Series: RT; Length: 0.063inch; Width: 0.031inch; Height: 0.022inch; RoHS Compliant: Yes; ComponentLink1URL: http://www.yageo.com/documents/recent/PYu-RT_1-to-0.01_RoHS_L_8.pdf?src-supplier=Digikey; ComponentLink1Description: http://www.yageo.com/documents/recent/PYu-RT_1-to-0.01_RoHS_L_8.pdf?src-supplier=Digikey; Manufacture Part Number Cross: *; Manufacture Cross: *; ComponentLink2Description: Link Viet Nam; ComponentLink2URL: https://linhkienchatluong.vn/dien-tro-dan-0603-116w-1/dien-tro-dan-0603-39k-1-50c_sp836_ct5803.aspx; ComponentLink3Description: Link Cross; ComponentLink3URL: *; ComponentLink4Description: Link Original; ComponentLink4URL: https://www.digikey.com/en/products/detail/yageo/RT0603CRE0739KL/5928786?s=N4IgTCBcDaIEoBUAMA2JBmAwnAokg7OgJwDSAMiALoC%2BQA
footprint 0603_YAGEO
pins: 1, 2

## RES; SMD; 47K; 1%; 0603; 1/10W; RC0603FR-0747KL
designator R?, comment value 47kR  (hidden comment: 47 kOhms ±1% 0.1W, 1/10W Chip Resistor 0603 (1608 Metric) Moisture Resistant Thick Film)
SMD Chip Resistor, 47 kOhm, ï¿½ 1%, 100 mW, 0603 [1608 Metric], Thick Film, General Purpose; Manufacturer: Yageo; Manufacturer Part Number: RC0603FR-0747KL; Power Rating: 100mW; Voltage Rating: 50V; Temperature Coefficient: 100ppm/°C; Library MADE By: Cong Le; Supplier: Future Electronics; Supplier Part Number: 6616189; RoHS: Yes; Category: Chip SMD Resistors; Stock: 6495000; Pricing: 5000=0.0015, 50000=0.0014, 75000=0.0014, 150000=0.0013, 250000=0.0014, 375000=0.0013, 750000=0.0013, 1000000=0.0012, 2500000=0.0012 (USD); Case/Package: 0603; Pins: 2; Case Code (Metric): 1608; Case Code (Imperial): 0603; Min Operating Temperature: -55°C; Max Operating Temperature: 155°C; Tolerance: 1%; Packaging: Tape and Reel; Voltage Rating (DC): 50V; Package Quantity: 1; Resistor Type: Thick Film; Number of Terminations: 2; Termination: SMD/SMT; Max Power Dissipation: 100mW; Features: Moisture Resistant; Series: RC; Resistance Tolerance: 1%; Technology: THICK FILM; Voltage Rating (AC): 50V; Length: 0.063inch; Width: 0.031inch; Height: 0.022inch; Depth: 0.8mm; Radiation Hardening: No; Lead Free: Lead Free; RoHS Compliant: Yes; Reach SVHC Compliant: Unknown; ComponentLink1URL: https://datasheet.ciiva.com/11808/0900766b80f96399-11808118.pdf?src-supplier=Rs; ComponentLink1Description: https://datasheet.ciiva.com/11808/0900766b80f96399-11808118.pdf?src-supplier=Rs; ComponentLink2URL: https://datasheet.ciiva.com/2453/pyu-r-int-thick-7-2453931.pdf?src-supplier=Digikey; ComponentLink2Description: https://datasheet.ciiva.com/2453/pyu-r-int-thick-7-2453931.pdf?src-supplier=Digikey; ComponentLink3URL: https://datasheet.ciiva.com/2453/pyu-r-int-thick-7-2453932.pdf?src-supplier=Digikey; ComponentLink3Description: https://datasheet.ciiva.com/2453/pyu-r-int-thick-7-2453932.pdf?src-supplier=Digikey; ComponentLink4URL: https://datasheet.ciiva.com/2453/pyu-r-int-thick-7-2453933.pdf?src-supplier=Digikey; ComponentLink4Description: https://datasheet.ciiva.com/2453/pyu-r-int-thick-7-2453933.pdf?src-supplier=Digikey; ComponentLink5URL: https://datasheet.ciiva.com/7746/443971-7746361.pdf?src-supplier=Element14; ComponentLink5Description: https://datasheet.ciiva.com/7746/443971-7746361.pdf?src-supplier=Element14; ComponentLink6URL: https://datasheet.ciiva.com/7746/443971-7746362.pdf?src-supplier=Element14; ComponentLink6Description: https://datasheet.ciiva.com/7746/443971-7746362.pdf?src-supplier=Element14; Manufacture Cross: YAGEO; Manufacture Part Number Cross: RC0603FR-0747KL; ComponentLink7Description: Link Original; ComponentLink7URL: https://www.digikey.com/en/products/detail/yageo/RC0603FR-0747KL/727253; ComponentLink8Description: Link Cross; ComponentLink8URL: https://www.lcsc.com/product-detail/Chip-Resistor-Surface-Mount_YAGEO-RC0603FR-0747KL_C105579.html; ComponentLink9Description: Link Viet Nam; ComponentLink9URL: https://linhkienchatluong.vn/dien-tro-dan-0603-116w-1/dien-tro-dan-0603-47k-1-50c_sp836_ct8437.aspx
footprint 0603_YAGEO
pins: 1, 2

## RES; SMD; 210K; 1%; 0603; 1/10W; RT0603FRE07210KL
designator R?, comment value 210K  (hidden comment: 210 kOhms ±1% 0.1W, 1/10W Chip Resistor 0603 (1608 Metric) Thin Film)
igh Precision-High Stability Chip Resistor Thin Film 0603 210kOhm 1% Paper T/R; Manufacturer: Yageo; Manufacturer Part Number: RT0603FRE07210KL; Power Rating: 100mW; Voltage Rating: 75V; Temperature Coefficient: 50ppm/°C; Voltage Rating (DC): 50V; Library MADE By: Cong Le; Supplier: Future Electronics; Supplier Part Number: 6163244; RoHS: Yes; Category: Chip SMD Resistors; Stock: 5000; Pricing: 5000=0.0028, 15000=0.0027, 50000=0.0026, 100000=0.0025, 200000=0.0024 (USD); Case/Package: 0603; Case Code (Metric): 1608; Case Code (Imperial): 0603; Min Operating Temperature: -55°C; Max Operating Temperature: 155°C; Packaging: Tape and Reel; Tolerance: 1%; Number of Terminations: 2; Termination: SMD/SMT; Max Power Dissipation: 100mW; Series: RT; Lead Free: Lead Free; RoHS Compliant: Yes; ComponentLink1URL: https://datasheet.ciiva.com/2559/pyu-rt-1-to-0-05-rohs-l-5-2559639.pdf?src-supplier=Digikey; ComponentLink1Description: https://datasheet.ciiva.com/2559/pyu-rt-1-to-0-05-rohs-l-5-2559639.pdf?src-supplier=Digikey; ComponentLink2URL: https://datasheet.ciiva.com/12704/pyu-rt-1-to-0-05-rohs-l-4-12704296.pdf?src-supplier=Mouser; ComponentLink2Description: https://datasheet.ciiva.com/12704/pyu-rt-1-to-0-05-rohs-l-4-12704296.pdf?src-supplier=Mouser; ComponentLink3Description: Link Viet Nam; ComponentLink3URL: https://dientutuonglai.com/dien-tro-dan-210k-ohm-0603-1.html; ComponentLink4Description: Link Cross; ComponentLink4URL: *; ComponentLink5Description: Link Original; ComponentLink5URL: https://www.digikey.com/en/products/detail/yageo/RT0603FRE07210KL/1075197?s=N4IgTCBcDaIEoBUAMA2JBmAYnAokg7GAIxIDSAMiALoC%2BQA; Manufacture Part Number Cross: *; Manufacture Cross: *
footprint 0603_YAGEO
pins: 1, 2

## RES; SMD; 470R; 1%; 0603; 1/10W; RC0603DR-07470RL
designator R?, comment value 470R  (hidden comment: 470 Ohms ±0.5% 0.1W, 1/10W Chip Resistor 0603 (1608 Metric) Moisture Resistant Thick Film)
General Purpose Chip Resistor Thick Film 0603 470Ohm 0.5% Paper T/R; Manufacturer: Yageo; Manufacturer Part Number: RC0603DR-07470RL; Max Power Dissipation: 100mW; Temperature Coefficient: 100ppm/°C; Library MADE By: Cong Le; Supplier: Digikey; Supplier Part Number: RC0603DR-07470RL-ND; RoHS: Yes; Category: Chip SMD Resistors; Pricing: 5000=0.00884 (USD); Case/Package: 0603; Min Operating Temperature: -55°C; Max Operating Temperature: 155°C; Packaging: Tape and Reel; Number of Terminations: 2; Tolerance: 0.5%; Features: Moisture Resistant; Series: RC; Length: 0.063inch; Width: 0.031inch; Height: 0.022inch; RoHS Compliant: Yes; ComponentLink1URL: http://www.yageo.com.tw/exep/pages/download/literatures/PYu-R_INT-thick_7.pdf?src-supplier=Digikey; ComponentLink1Description: http://www.yageo.com.tw/exep/pages/download/literatures/PYu-R_INT-thick_7.pdf?src-supplier=Digikey; Manufacture Cross: *; Manufacture Part Number Cross: *; ComponentLink2Description: Link Viet Nam; ComponentLink2URL: https://www.linhkienchatluong.vn/dien-tro-dan-0603-116w/dien-tro-dan-0603-470r-1-50c_sp836_ct8421.aspx; ComponentLink3Description: Link Cross; ComponentLink3URL: *; ComponentLink4Description: Link Original; ComponentLink4URL: https://www.digikey.com/en/products/detail/yageo/RC0603DR-07470RL/5918080?s=N4IgTCBcDaIE4GMAMA2JBmAJnAtEg7ACz5JwA2IAugL5A
footprint 0603_YAGEO
pins: 1, 2

## RES; SMD; 510R; 1%; 0603; 1/10W; RC0603FR-07510RL
designator R?, comment value 510R  (hidden comment: 510 Ohms ±1% 0.1W, 1/10W Chip Resistor 0603 (1608 Metric) Moisture Resistant Thick Film)
100Mw Thick Film Resistors 100Ppm/ 1% 510 0603 Chip Resistor Surface Mount Rohs; Manufacturer: Yageo; Manufacturer Part Number: RC0603FR-07510RL; Temperature Coefficient: 100ppm/°C; Voltage Rating: 75V; Voltage Rating (DC): 50V; Library MADE By: Cong Le; Supplier: Newark; Supplier Part Number: 21AM7137; RoHS: Yes; Category: Chip SMD Resistors; Case/Package: 0603; Pins: 2; Contact Plating: Tin,Matte; Case Code (Imperial): 0603; Weight: 7.1E-05oz; Case Code (Metric): 1608; Min Operating Temperature: -55°C; Max Operating Temperature: 155°C; Tolerance: 1%; Power Rating: 100mW; Packaging: Tape and Reel; Termination: SMD/SMT; Resistor Type: Thick Film; Features: Moisture Resistant; Series: RC; Max Power Dissipation: 100mW; Number of Terminations: 2; Resistance Tolerance: 1%; Technology: THICK FILM; Length: 1.6mm; Width: 0.8mm; Height: 0.45mm; Depth: 0.8mm; Reach SVHC Compliant: No; Lead Free: 5697LeadFree; RoHS Compliant: Yes; ComponentLink1URL: https://datasheet.ciiva.com/11808/0900766b80f96399-11808268.pdf?src-supplier=Rs; ComponentLink1Description: https://datasheet.ciiva.com/11808/0900766b80f96399-11808268.pdf?src-supplier=Rs; ComponentLink2URL: https://datasheet.ciiva.com/46395/443971-46395013.pdf?src-supplier=Element14; ComponentLink2Description: https://datasheet.ciiva.com/46395/443971-46395013.pdf?src-supplier=Element14; ComponentLink3URL: https://datasheet.ciiva.com/8883/pyu-rc0603-51-rohs-l-4-8883078.pdf?src-supplier=Avnet; ComponentLink3Description: https://datasheet.ciiva.com/8883/pyu-rc0603-51-rohs-l-4-8883078.pdf?src-supplier=Avnet; Manufacture Part Number Cross: *; Manufacture Cross: *; ComponentLink4Description: Link Viet Nam; ComponentLink4URL: https://linhkienchatluong.vn/dien-tro-dan-0603-116w-1/dien-tro-dan-0603-510r-1-50c_sp836_ct8908.aspx; ComponentLink5Description: Link Cross; ComponentLink5URL: *; ComponentLink6Description: Link Original; ComponentLink6URL: https://www.digikey.com/en/products/detail/yageo/RC0603FR-07510RL/727285?s=N4IgTCBcDaIEoGEAMA2JBmAYnAtEg7AKwCMScAMiALoC%2BQA
footprint 0603_YAGEO
pins: 1, 2

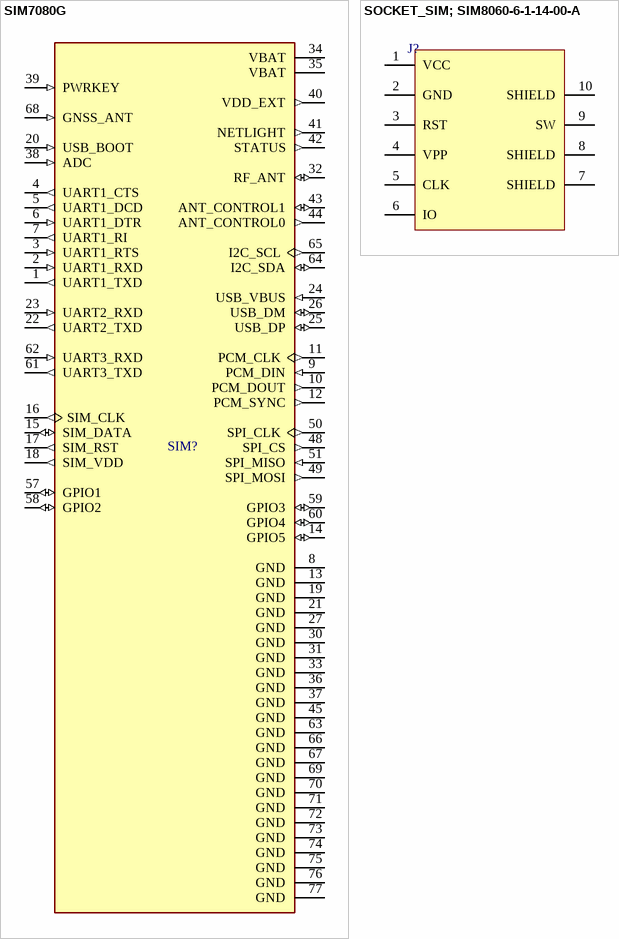
[diagram p1: symbols SIM7080G to SOCKET_SIM; SIM8060-6-1-14-00-A]

## SIM7080G
designator SIM?, comment RF TXRX MOD CELL NAV SMD  (value not drawn)
CAT-M and NB-IoT Module 600MHz/700MHz/800MHz/850MHz/900MHz/1700MHz/1800MHz/1900MHz/2100MHz 2.7V to 4.8V LCC+LGA; Manufacturer: Simcom; Manufacturer Part Number: SIM7080G; Library MADE By: Cong Le; Supplier: Digikey; Supplier Part Number: 3781-SIM7080G-ND; RoHS: No; Category: LDO; Stock: 865; Pricing: 1=22.62, 10=19.724, 25=18.7208, 100=17.3446, 250=16.52136, 500=15.94076 (USD); Manufacture Cross: *; Manufacture Part Number Cross: *; ComponentLink1Description: Link Original; ComponentLink1URL: https://www.digikey.com/en/products/detail/simcom-wireless-solutions-limited/SIM7080G/15841448; ComponentLink2Description: Link Cross; ComponentLink2URL: *; ComponentLink3Description: Link Viet Nam; ComponentLink3URL: https://linhkien.cxtvn.com/6535-sim7080g-cat-mnb-iot.html
footprint SIM7080G
pins: 1 UART1_TXD (out), 2 UART1_RXD (in), 3 UART1_RTS (in), 4 UART1_CTS (out), 5 UART1_DCD (out), 6 UART1_DTR (in), 7 UART1_RI (out), 8 GND (power), 9 PCM_DIN (in), 10 PCM_DOUT (out), 11 PCM_CLK (out), 12 PCM_SYNC (out), 13 GND (power), 14 GPIO5 (io), 15 SIM_DATA (io), 16 SIM_CLK (out), 17 SIM_RST (out), 18 SIM_VDD (out), 19 GND (power), 20 USB_BOOT (in), 21 GND (power), 22 UART2_TXD (out), 23 UART2_RXD (in), 24 USB_VBUS (in), 25 USB_DP (io), 26 USB_DM (io), 27 GND (power), 30 GND (power), 31 GND (power), 32 RF_ANT (io), 33 GND (power), 34 VBAT (power), 35 VBAT (power), 36 GND (power), 37 GND (power), 38 ADC (in), 39 PWRKEY (in), 40 VDD_EXT (out), 41 NETLIGHT (out), 42 STATUS (out), 43 ANT_CONTROL1 (io), 44 ANT_CONTROL0 (out), 45 GND (power), 48 SPI_CS (out), 49 SPI_MOSI (out), 50 SPI_CLK (out), 51 SPI_MISO (in), 57 GPIO1 (io), 58 GPIO2 (io), 59 GPIO3 (io), 60 GPIO4 (io), 61 UART3_TXD (out), 62 UART3_RXD (in), 63 GND (power), 64 I2C_SDA (io), 65 I2C_SCL (out), 66 GND (power), 67 GND (power), 68 GNSS_ANT (in), 69 GND (power), 70 GND (power), 71 GND (power), 72 GND (power), 73 GND (power), 74 GND (power), 75 GND (power), 76 GND (power), 77 GND (power)

## SOCKET_SIM; SIM8060-6-1-14-00-A
designator J?, comment 6 Position Card Connector NANO SIM Surface Mount, Right Angle Gold  (value not drawn)
6 Position Right Angle Surface Mount NANO SIM Card Connector; Manufacturer: Global Connector Technology; Manufacturer Part Number: SIM8060-6-1-14-00-A; Manufacture Cross: GCT; Designer: TVBac; Library MADE By: Cong Le; Supplier: Digikey; Supplier Part Number: 2073-SIM8060-6-1-14-00-ACT-ND; RoHS: No; Category: Connectors; Stock: 11694; Pricing: 1=1.44, 10=1.217, 25=1.1676, 50=1.143, 100=1.0932, 250=0.99384, 500=0.89446 (USD); ComponentLink1URL: https://datasheet.octopart.com/SIM8060-6-1-14-00-A-Global-Connector-Technology-datasheet-128083790.pdf?src-supplier=Future+Electronics; ComponentLink1Description: https://datasheet.octopart.com/SIM8060-6-1-14-00-A-Global-Connector-Technology-datasheet-128083790.pdf?src-supplier=Future+Electronics; ComponentLink2URL: https://gct.co/files/drawings/sim8060.pdf?src-supplier=Digikey; ComponentLink2Description: https://gct.co/files/drawings/sim8060.pdf?src-supplier=Digikey; ComponentLink3Description: Link Original; ComponentLink3URL: https://www.digikey.com/en/products/detail/gct/SIM8060-6-1-14-00-A/10127235; ComponentLink4Description: Link Cross; ComponentLink4URL: https://www.lcsc.com/product-detail/span-style-background-color-ff0-SIM-span-Card-Connectors_Global-Connector-Technology-SIM8060-6-1-14-00-A_C2943124.html; ComponentLink5Description: Link Viet Nam; ComponentLink5URL: https://shopee.vn/5-c%C3%A1i-Socket-khe-khay-c%E1%BA%AFm-micro-SIM-6P-8P-n%E1%BA%AFp-s%E1%BA%AFt-kde5392-i.49119859.2216312524?sp_atk=ad505d5b-ad20-49c7-9730-b59bf6002195&xptdk=ad505d5b-ad20-49c7-9730-b59bf6002195; Manufacture Part Number Cross: SIM8060-6-1-14-00-A
footprint NANO-SIM8060
pins: 1 VCC, 2 GND, 3 RST, 4 VPP, 5 CLK, 6 IO, 7 SHIELD, 8 SHIELD, 9 SW, 10 SHIELD